# Altium schematic symbol library LEDs.SchLib: 14 symbols
Pins are listed as number, name and electrical type; pins without a type are passive.

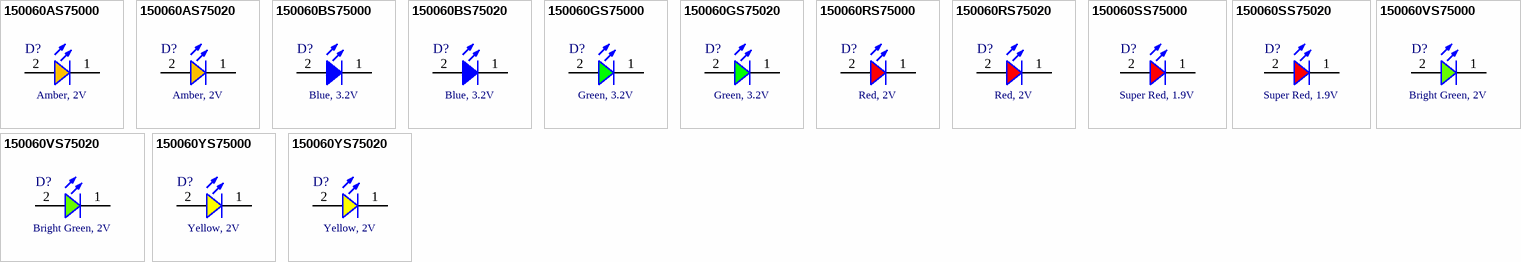
[diagram p0: symbols 150060AS75000 to 150060YS75020]

## 150060AS75000
designator D?, comment Amber, 2V
WL-SMCW SMT Mono-color Chip LED Waterclear, size 0603, Amber, 2V, 140deg; Part Number: 150060AS75000; Chip Technology: AlInGaP; Dominant Wavelength typ.: 605nm; Luminous Intensity typ.: 130mcd; Peak Wavelength typ.: 610nm; Viewing Angle: 140deg; ComponentLink1Description: Manufacturer; ComponentLink1URL: http://www.we-online.de; ComponentLink2URL: https://www.we-online.com/catalog/datasheet/150060AS75000.pdf; ComponentLink2Description: Datasheet; Forward Voltage typ.: 2V; Emitting Color: Amber; Mounting Technology: SMT; Operating Temperature: -40 to +85degC; Published Date: December 2019; Packaging: Tape and Reel; Size: 0603; Publisher: Wurth Elektronik
footprint WL-SMCW_0603_H=0.7mm (SMD Mono-color Chip LED, body 1.6x0.8mm)
footprint WL-SMCW_0603_H=0.7mm (SMD Mono-color Chip LED, body 1.6x0.8mm)
pins: 1 K, 2 A

## 150060AS75020
designator D?, comment Amber, 2V
WL-SMCW SMT Mono-color Chip LED Waterclear, size 0603, Amber, 2V, 140deg; Part Number: 150060AS75020; Chip Technology: AlInGaP; Dominant Wavelength typ.: 605nm; Luminous Intensity typ.: 140mcd; Peak Wavelength typ.: 610nm; Viewing Angle: 140deg; ComponentLink1Description: Manufacturer; ComponentLink1URL: http://www.we-online.de; ComponentLink2URL: https://www.we-online.com/catalog/datasheet/150060AS75020.pdf; ComponentLink2Description: Datasheet; Forward Voltage typ.: 2V; Emitting Color: Amber; Mounting Technology: SMT; Operating Temperature: -40 to +85degC; Published Date: March 2020; Packaging: Tape and Reel; Size: 0603; Publisher: Wurth Elektronik
footprint WL-SMCW_0603_H=0.25mm (SMD Mono-color Chip LED, body 1.6x0.8mm)
footprint WL-SMCW_0603_H=0.25mm (SMD Mono-color Chip LED, body 1.6x0.8mm)
pins: 1 K, 2 A

## 150060BS75000
designator D?, comment Blue, 3.2V
WL-SMCW SMT Mono-color Chip LED Waterclear, size 0603, Blue, 3.2V, 140deg; Part Number: 150060BS75000; Chip Technology: InGaN; Dominant Wavelength typ.: 470nm; Luminous Intensity typ.: 145mcd; Peak Wavelength typ.: 465nm; Viewing Angle: 140deg; ComponentLink1Description: Manufacturer; ComponentLink1URL: http://www.we-online.de; ComponentLink2URL: https://www.we-online.com/catalog/datasheet/150060BS75000.pdf; ComponentLink2Description: Datasheet; Forward Voltage typ.: 3.2V; Emitting Color: Blue; Mounting Technology: SMT; Operating Temperature: -40 to +85degC; Published Date: December 2019; Packaging: Tape and Reel; Size: 0603; Publisher: Wurth Elektronik
footprint WL-SMCW_0603_H=0.7mm
footprint WL-SMCW_0603_H=0.7mm (SMD Mono-color Chip LED, body 1.6x0.8mm)
pins: 1 K, 2 A

## 150060BS75020
designator D?, comment Blue, 3.2V
WL-SMCW SMT Mono-color Chip LED Waterclear, size 0603, Blue, 3.2V, 140deg; Part Number: 150060BS75020; Chip Technology: InGaN; Dominant Wavelength typ.: 470nm; Luminous Intensity typ.: 150mcd; Peak Wavelength typ.: 465nm; Viewing Angle: 140deg; ComponentLink1Description: Manufacturer; ComponentLink1URL: http://www.we-online.de; ComponentLink2URL: https://www.we-online.com/catalog/datasheet/150060BS75020.pdf; ComponentLink2Description: Datasheet; Forward Voltage typ.: 3.2V; Emitting Color: Blue; Mounting Technology: SMT; Operating Temperature: -40 to +85degC; Published Date: March 2020; Packaging: Tape and Reel; Size: 0603; Publisher: Wurth Elektronik
footprint WL-SMCW_0603_H=0.25mm (SMD Mono-color Chip LED, body 1.6x0.8mm)
pins: 1 K, 2 A

## 150060GS75000
designator D?, comment Green, 3.2V
WL-SMCW SMT Mono-color Chip LED Waterclear, size 0603, Green, 3.2V, 140deg; Part Number: 150060GS75000; Chip Technology: InGaN; Dominant Wavelength typ.: 525nm; Luminous Intensity typ.: 430mcd; Peak Wavelength typ.: 515nm; Viewing Angle: 140deg; ComponentLink1Description: Manufacturer; ComponentLink1URL: http://www.we-online.de; ComponentLink2URL: https://www.we-online.com/catalog/datasheet/150060GS75000.pdf; ComponentLink2Description: Datasheet; Forward Voltage typ.: 3.2V; Emitting Color: Green; Mounting Technology: SMT; Operating Temperature: -40 to +85degC; Published Date: December 2019; Packaging: Tape and Reel; Size: 0603; Publisher: Wurth Elektronik
footprint WL-SMCW_0603_H=0.7mm
footprint WL-SMCW_0603_H=0.7mm (SMD Mono-color Chip LED, body 1.6x0.8mm)
pins: 1 K, 2 A

## 150060GS75020
designator D?, comment Green, 3.2V
WL-SMCW SMT Mono-color Chip LED Waterclear, size 0603, Green, 3.2V, 140deg; Part Number: 150060GS75020; Chip Technology: InGaN; Dominant Wavelength typ.: 525nm; Luminous Intensity typ.: 700mcd; Peak Wavelength typ.: 515nm; Viewing Angle: 140deg; ComponentLink1Description: Manufacturer; ComponentLink1URL: http://www.we-online.de; ComponentLink2URL: https://www.we-online.com/catalog/datasheet/150060GS75020.pdf; ComponentLink2Description: Datasheet; Forward Voltage typ.: 3.2V; Emitting Color: Green; Mounting Technology: SMT; Operating Temperature: -40 to +85degC; Published Date: March 2020; Packaging: Tape and Reel; Size: 0603; Publisher: Wurth Elektronik
footprint WL-SMCW_0603_H=0.25mm
footprint WL-SMCW_0603_H=0.25mm (SMD Mono-color Chip LED, body 1.6x0.8mm)
pins: 1 K, 2 A

## 150060RS75000
designator D?, comment Red, 2V
WL-SMCW SMT Mono-color Chip LED Waterclear, size 0603, Red, 2V, 140deg; Part Number: 150060RS75000; Chip Technology: AlInGaP; Dominant Wavelength typ.: 625nm; Luminous Intensity typ.: 250mcd; Peak Wavelength typ.: 630nm; Viewing Angle: 140deg; ComponentLink1Description: Manufacturer; ComponentLink1URL: http://www.we-online.de; ComponentLink2URL: https://www.we-online.com/catalog/datasheet/150060RS75000.pdf; ComponentLink2Description: Datasheet; Forward Voltage typ.: 2V; Emitting Color: Red; Mounting Technology: SMT; Operating Temperature: -40 to +85degC; Published Date: December 2019; Packaging: Tape and Reel; Size: 0603; Publisher: Wurth Elektronik
footprint WL-SMCW_0603_H=0.7mm
footprint WL-SMCW_0603_H=0.7mm (SMD Mono-color Chip LED, body 1.6x0.8mm)
pins: 1 K, 2 A

## 150060RS75020
designator D?, comment Red, 2V
WL-SMCW SMT Mono-color Chip LED Waterclear, size 0603, Red, 2V, 140deg; Part Number: 150060RS75020; Chip Technology: AlInGaP; Dominant Wavelength typ.: 625nm; Luminous Intensity typ.: 100mcd; Peak Wavelength typ.: 630nm; Viewing Angle: 140deg; ComponentLink1Description: Manufacturer; ComponentLink1URL: http://www.we-online.de; ComponentLink2URL: https://www.we-online.com/catalog/datasheet/150060RS75020.pdf; ComponentLink2Description: Datasheet; Forward Voltage typ.: 2V; Emitting Color: Red; Mounting Technology: SMT; Operating Temperature: -40 to +85degC; Published Date: March 2020; Packaging: Tape and Reel; Size: 0603; Publisher: Wurth Elektronik
footprint WL-SMCW_0603_H=0.25mm
footprint WL-SMCW_0603_H=0.25mm (SMD Mono-color Chip LED, body 1.6x0.8mm)
pins: 1 K, 2 A

## 150060SS75000
designator D?, comment Super Red, 1.9V
WL-SMCW SMT Mono-color Chip LED Waterclear, size 0603, Super Red, 1.9V, 140deg; Part Number: 150060SS75000; Chip Technology: AlInGaP; Dominant Wavelength typ.: 630nm; Luminous Intensity typ.: 60mcd; Peak Wavelength typ.: 645nm; Viewing Angle: 140deg; ComponentLink1Description: Manufacturer; ComponentLink1URL: http://www.we-online.de; ComponentLink2URL: https://www.we-online.com/catalog/datasheet/150060SS75000.pdf; ComponentLink2Description: Datasheet; Forward Voltage typ.: 1.9V; Emitting Color: Super Red; Mounting Technology: SMT; Operating Temperature: -40 to +85degC; Published Date: December 2019; Packaging: Tape and Reel; Size: 0603; Publisher: Wurth Elektronik
footprint WL-SMCW_0603_H=0.7mm
footprint WL-SMCW_0603_H=0.7mm (SMD Mono-color Chip LED, body 1.6x0.8mm)
pins: 1 K, 2 A

## 150060SS75020
designator D?, comment Super Red, 1.9V
WL-SMCW SMT Mono-color Chip LED Waterclear, size 0603, Super Red, 1.9V, 140deg; Part Number: 150060SS75020; Chip Technology: AlInGaP; Dominant Wavelength typ.: 630nm; Luminous Intensity typ.: 70mcd; Peak Wavelength typ.: 645nm; Viewing Angle: 140deg; ComponentLink1Description: Manufacturer; ComponentLink1URL: http://www.we-online.de; ComponentLink2URL: https://www.we-online.com/catalog/datasheet/150060SS75020.pdf; ComponentLink2Description: Datasheet; Forward Voltage typ.: 1.9V; Emitting Color: Super Red; Mounting Technology: SMT; Operating Temperature: -40 to +85degC; Published Date: March 2020; Packaging: Tape and Reel; Size: 0603; Publisher: Wurth Elektronik
footprint WL-SMCW_0603_H=0.25mm
footprint WL-SMCW_0603_H=0.25mm (SMD Mono-color Chip LED, body 1.6x0.8mm)
pins: 1 K, 2 A

## 150060VS75000
designator D?, comment Bright Green, 2V
WL-SMCW SMT Mono-color Chip LED Waterclear, size 0603, Bright Green, 2V, 140deg; Part Number: 150060VS75000; Chip Technology: AlInGaP; Dominant Wavelength typ.: 570nm; Luminous Intensity typ.: 40mcd; Peak Wavelength typ.: 572nm; Viewing Angle: 140deg; ComponentLink1Description: Manufacturer; ComponentLink1URL: http://www.we-online.de; ComponentLink2URL: https://www.we-online.com/catalog/datasheet/150060VS75000.pdf; ComponentLink2Description: Datasheet; Forward Voltage typ.: 2V; Emitting Color: Bright Green; Mounting Technology: SMT; Operating Temperature: -40 to +85degC; Published Date: December 2019; Packaging: Tape and Reel; Size: 0603; Publisher: Wurth Elektronik
footprint WL-SMCW_0603_H=0.7mm
footprint WL-SMCW_0603_H=0.7mm (SMD Mono-color Chip LED, body 1.6x0.8mm)
pins: 1 K, 2 A

## 150060VS75020
designator D?, comment Bright Green, 2V
WL-SMCW SMT Mono-color Chip LED Waterclear, size 0603, Bright Green, 2V, 140deg; Part Number: 150060VS75020; Chip Technology: AlInGaP; Dominant Wavelength typ.: 570nm; Luminous Intensity typ.: 50mcd; Peak Wavelength typ.: 572nm; Viewing Angle: 140deg; ComponentLink1Description: Manufacturer; ComponentLink1URL: http://www.we-online.de; ComponentLink2URL: https://www.we-online.com/catalog/datasheet/150060VS75020.pdf; ComponentLink2Description: Datasheet; Forward Voltage typ.: 2V; Emitting Color: Bright Green; Mounting Technology: SMT; Operating Temperature: -40 to +85degC; Published Date: March 2020; Packaging: Tape and Reel; Size: 0603; Publisher: Wurth Elektronik
footprint WL-SMCW_0603_H=0.25mm
footprint WL-SMCW_0603_H=0.25mm (SMD Mono-color Chip LED, body 1.6x0.8mm)
pins: 1 K, 2 A

## 150060YS75000
designator D?, comment Yellow, 2V
WL-SMCW SMT Mono-color Chip LED Waterclear, size 0603, Yellow, 2V, 140deg; Part Number: 150060YS75000; Chip Technology: AlInGaP; Dominant Wavelength typ.: 590nm; Luminous Intensity typ.: 120mcd; Peak Wavelength typ.: 595nm; Viewing Angle: 140deg; ComponentLink1Description: Manufacturer; ComponentLink1URL: http://www.we-online.de; ComponentLink2URL: https://www.we-online.com/catalog/datasheet/150060YS75000.pdf; ComponentLink2Description: Datasheet; Forward Voltage typ.: 2V; Emitting Color: Yellow; Mounting Technology: SMT; Operating Temperature: -40 to +85degC; Published Date: December 2019; Packaging: Tape and Reel; Size: 0603; Publisher: Wurth Elektronik
footprint WL-SMCW_0603_H=0.7mm (SMD Mono-color Chip LED, body 1.6x0.8mm)
pins: 1 K, 2 A

## 150060YS75020
designator D?, comment Yellow, 2V
WL-SMCW SMT Mono-color Chip LED Waterclear, size 0603, Yellow, 2V, 140deg; Part Number: 150060YS75020; Chip Technology: AlInGaP; Dominant Wavelength typ.: 590nm; Luminous Intensity typ.: 130mcd; Peak Wavelength typ.: 595nm; Viewing Angle: 140deg; ComponentLink1Description: Manufacturer; ComponentLink1URL: http://www.we-online.de; ComponentLink2URL: https://www.we-online.com/catalog/datasheet/150060YS75020.pdf; ComponentLink2Description: Datasheet; Forward Voltage typ.: 2V; Emitting Color: Yellow; Mounting Technology: SMT; Operating Temperature: -40 to +85degC; Published Date: March 2020; Packaging: Tape and Reel; Size: 0603; Publisher: Wurth Elektronik
footprint WL-SMCW_0603_H=0.25mm (SMD Mono-color Chip LED, body 1.6x0.8mm)
footprint WL-SMCW_0603_H=0.25mm (SMD Mono-color Chip LED, body 1.6x0.8mm)
pins: 1 K, 2 A